# Altium schematic symbol library 08055C103JAT2A.SchLib: 1 symbol
Pins are listed as number, name and electrical type; pins without a type are passive.

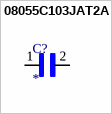
[diagram p0: symbol 08055C103JAT2A]

## 08055C103JAT2A
designator C?
.01UF 50V 5% 0805; MP: 08055C103JAT2A; Package: None; Price: None; Value: *; Availability: Unavailable
footprint CAPC2012X94N
pins: 1, 2